# Altium footprint library Si702x.PcbLib: 6 footprints
Each footprint in its own frame and in the unit in brackets; x right, y up, seen from the top. Pads: shape width x height; smd on the part's side, far side on the other; paste and mask are expansions set on the pad; w line width, h text height; cw(c..) or ccw(c..) is an arc to the next point about the centre after c.
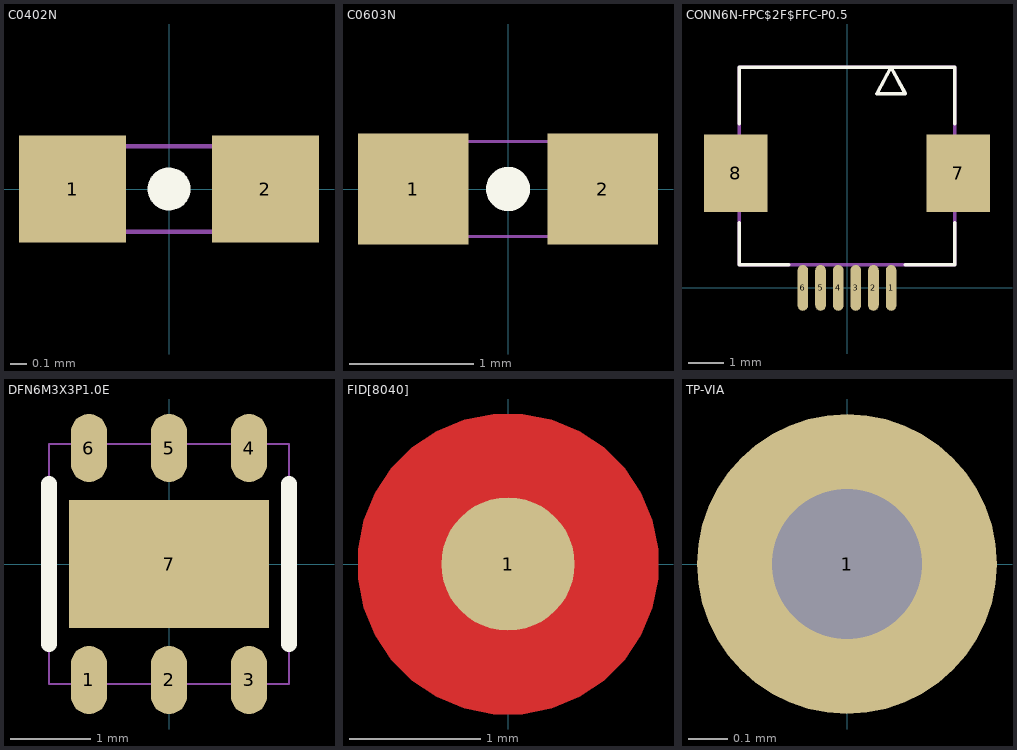
[diagram p0: the footprints below, top view; thin cyan lines are the x and y axes]

## C0402N [mil]
pads (2):
  rect 25x25 smd: 1(-22.5,0) 2(22.5,0)
Top Overlay:
  circle w5: c0,0 r2.5
Mechanical 16:
  lines w1: -20,-10 -20,10 20,10 20,-10 -20,-10

## C0603N [mil]
pads (2):
  rect 35x35 smd: 1(-30,0) 2(30,0)
Top Overlay:
  circle w7: c0,0 r3.5
Mechanical 16:
  lines w1: -30,-15 30,-15 30,15 -30,15 -30,-15

## CONN6N-FPC$2F$FFC-P0.5 [mm]
pads (8):
  oval 0.3x1.3 smd: 1(1.25,0) 2(0.75,0) 3(0.25,0) 4(-0.25,0) 5(-0.75,0) 6(-1.25,0)
  rect 1.8x2.2 smd: 7(3.15,3.25) 8(-3.15,3.25)
Top Overlay:
  lines w0.1: -3.05,1.85 -3.05,0.65 -1.65,0.65 ; -3.05,4.65 -3.05,6.25 3.05,6.25 3.05,4.65 ; 1.65,0.65 3.05,0.65 3.05,1.85 ; 0.85,5.5 1.25,6.25 1.65,5.5 0.85,5.5
Mechanical 16:
  lines w0.1: -3.05,0.65 3.05,0.65 3.05,6.25 -3.05,6.25 -3.05,0.65

## DFN6M3X3P1.0E [mm]
height 0.001
pads (7):
  oval 0.45x0.85 smd: 1(-1,-1.45) 2(0,-1.45) 3(1,-1.45) 4(1,1.45) 5(0,1.45) 6(-1,1.45)
  rect 2.5x1.6 smd paste-1.25: 7(0,0)
Top Overlay:
  lines w0.2: -1.5,-1 -1.5,1 ; 1.5,-1 1.5,1
Top Paste:
  region: 0.15,-0.5 1.15,-0.5 1.15,0.5 0.15,0.5
  region: -1.15,0.5 -0.15,0.5 -0.15,-0.5 -1.15,-0.5
Mechanical 16:
  lines w0.025: -1.5,-1.5 1.5,-1.5 1.5,1.5 -1.5,1.5 -1.5,-1.5

## FID[8040] [mil]
pads (1):
  round 40 smd mask+20: 1(0,0)
Top Layer:
  pour cut-out: 45,0 45,4.43 43.27,13.13 39.88,21.32 34.95,28.69 28.69,34.95 21.32,39.88 13.13,43.27 4.43,45 0,45 -4.43,45 -13.13,43.27 -21.32,39.88 -28.69,34.95 -34.95,28.69 -39.88,21.32 -43.27,13.13 -45,4.43 -45,0 -45,-4.43 -43.27,-13.13 -39.88,-21.32 -34.95,-28.69 -28.69,-34.95 -21.32,-39.88 -13.13,-43.27 -4.43,-45 0,-45 4.43,-45 13.13,-43.27 21.32,-39.88 28.69,-34.95 34.95,-28.69 39.88,-21.32 43.27,-13.13 45,-4.43

## TP-VIA [mil]
pads (1):
  round 30 hole 15: 1(0,0)